# Altium footprint library SI8380P-IU.PcbLib: 1 footprints
Each footprint in its own frame and in the unit in brackets; x right, y up, seen from the top. Pads: shape width x height; smd on the part's side, far side on the other; paste and mask are expansions set on the pad; w line width, h text height; cw(c..) or ccw(c..) is an arc to the next point about the centre after c.
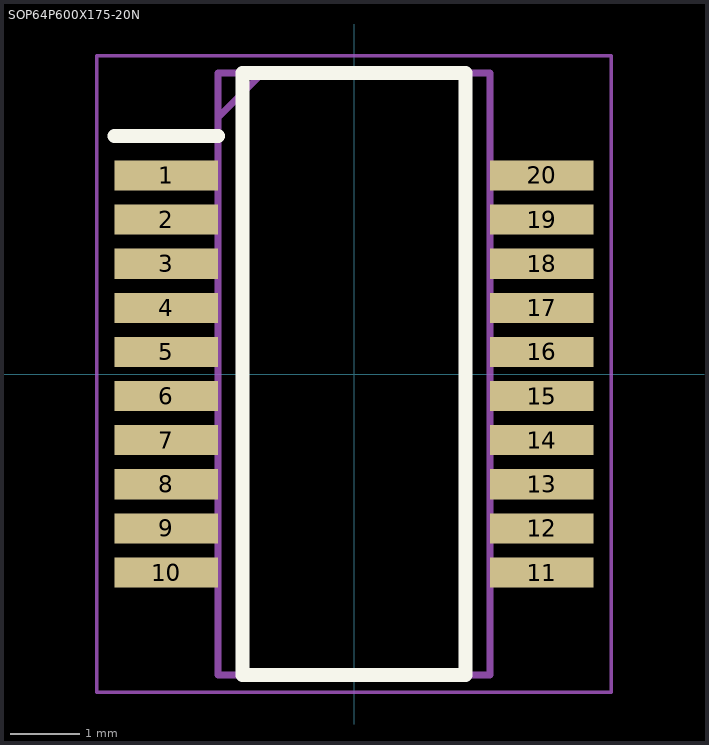
[diagram p0: the footprint, top view; thin cyan lines are the x and y axes]

## SOP64P600X175-20N [mm]
pads (20):
  rect 1.495x0.435 smd: 1(-2.702,2.858) 2(-2.702,2.222) 3(-2.702,1.588) 4(-2.702,0.952) 5(-2.702,0.318) 6(-2.702,-0.318) 7(-2.702,-0.952) 8(-2.702,-1.588) 9(-2.702,-2.222) 10(-2.702,-2.858) 11(2.702,-2.858) 12(2.702,-2.222) 13(2.702,-1.588) 14(2.702,-0.952) 15(2.702,-0.318) 16(2.702,0.318) 17(2.702,0.952) 18(2.702,1.588) 19(2.702,2.222) 20(2.702,2.858)
Top Overlay:
  lines w0.2: -3.45,3.425 -1.955,3.425 ; -1.605,-4.33 -1.605,4.33 1.605,4.33 1.605,-4.33 -1.605,-4.33
Mechanical 13:
  lines w0.1: -1.955,3.695 -1.32,4.33 ; -1.955,-4.33 -1.955,4.33 1.955,4.33 1.955,-4.33 -1.955,-4.33
Mechanical 15:
  lines w0.05: -3.7,-4.58 -3.7,4.58 3.7,4.58 3.7,-4.58 -3.7,-4.58
3D body "SI8380P-IU.stp": height 1.75, standoff 0, extent -3,-4.33 3,4.33